# Altium footprint library 6-Pcblib_BjtMos.PcbLib: 31 footprints (part 1 of 2)
Each footprint in its own frame and in the unit in brackets; x right, y up, seen from the top. Pads: shape width x height; smd on the part's side, far side on the other; paste and mask are expansions set on the pad; w line width, h text height; cw(c..) or ccw(c..) is an arc to the next point about the centre after c.
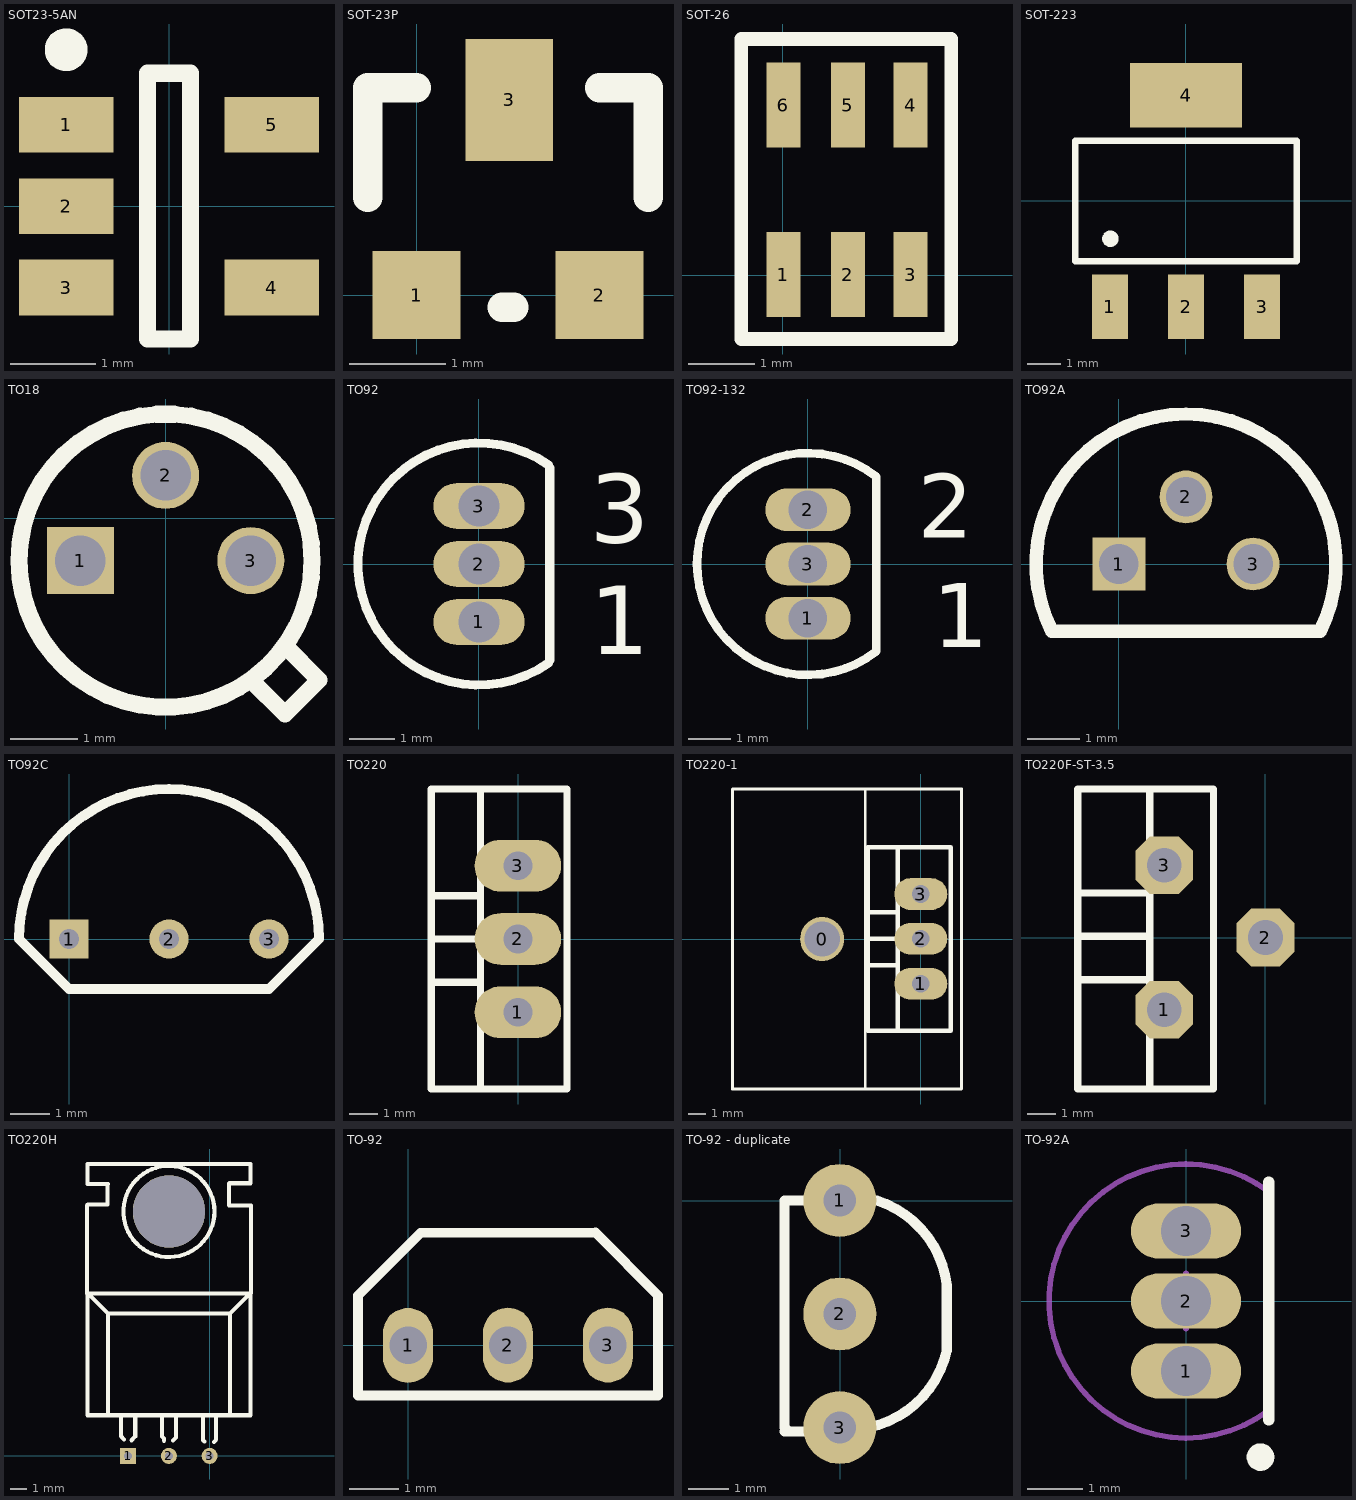
[diagram p0: the footprints below, top view; thin cyan lines are the x and y axes]

## SOT23-5AN [mm]
pads (5):
  rect 1.1x0.65 smd: 1(-1.2,0.95) 2(-1.2,0) 3(-1.2,-0.95) 4(1.2,-0.95) 5(1.2,0.95)
Top Overlay:
  circle w0.25: c-1.2,1.825 r0.125
  lines w0.2: -0.25,-1.55 -0.25,1.55 0.25,1.55 0.25,-1.55 -0.25,-1.55

## SOT-23P [mil]
pads (3):
  rect 36x36 smd: 1(0,0) 2(75,0)
  rect 36x50 smd: 3(38,80)
Top Overlay:
  lines w12: -20,40 -20,85 0,85 ; 35,-5 40,-5 ; 75,85 95,85 95,40

## SOT-26 [mil]
pads (6):
  rect 20x50 smd: 1(0.41,0.41) 2(38.41,0.41) 3(75.41,0.41) 4(75.41,100.41) 5(38.41,100.41) 6(0.41,100.41)
Top Overlay:
  lines w8: -24.59,-37.59 99.41,-37.59 99.41,139.41 -24.59,139.41 -24.59,-37.59

## SOT-223 [mm]
pads (4):
  rect 1.1x1.95 smd: 1(-2.298,-3.201) 2(0.002,-3.201) 3(2.302,-3.201)
  rect 3.4x1.95 smd: 4(0.002,3.199)
Top Overlay:
  circle w0.25: c-2.284,-1.143 r0.125
  lines w0.2: -3.348,-1.826 3.352,-1.826 3.352,1.824 -3.348,1.824 -3.348,-1.826

## TO18 [mm]
pads (3):
  rect 1x1 hole 0.75: 1(-1.27,-0.635)
  round 1 hole 0.75: 2(0,0.635) 3(1.27,-0.635)
Top Overlay:
  circle w0.254: c0,-0.635 r2.185
  lines w0.254: 1.27,-2.413 1.778,-2.921 2.286,-2.413 1.778,-1.905

## TO92 [mm] "TO, Flat Index; 3 In-Line, Axial Leads; Body Dia. 4.8mm; Leads 0.51 x 0.51 mm (max)"
height 5.33
pads (3):
  oval 2x1 hole 0.9: 1(0,-1.27) 2(0,0) 3(0,1.27)
Top Overlay:
  lines w0.2: 1.52,-2.171 cw(c0,0) 1.52,2.171 ; 1.55,-2.1 1.55,2.1
  text "1" at 2.421,-1.979 h1.5
  text "3" at 2.421,0.467 h1.5

## TO92-132 [mm] "TO, Flat Index; 3 In-Line, Axial Leads; Body Dia. 4.8mm; Leads 0.51 x 0.51 mm (max)"
height 5.33
pads (3):
  oval 2x1 hole 0.9: 1(0,-1.27) 2(0,1.27) 3(0,0)
Top Overlay:
  lines w0.2: 1.601,-2.049 cw(c0,0) 1.601,2.049 ; 1.6,-1.99 1.6,1.99
  text "2" at 2.57,0.61 h1.5
  text "1" at 2.93,-1.95 h1.5

## TO92A [mm]
pads (3):
  rect 1x1 hole 0.75: 1(0,0)
  round 1 hole 0.75: 2(1.27,1.27) 3(2.54,0)
Top Overlay:
  lines w0.254: -1.27,-1.27 cw(c1.27,0) 3.81,-1.27 -1.27,-1.27

## TO92C [mm]
pads (3):
  rect 1x1 hole 0.5: 1(0,0)
  round 1 hole 0.5: 2(2.54,0) 3(5.08,0)
Top Overlay:
  lines w0.254: -1.27,0 cw(c2.54,0) 6.35,0 5.08,-1.27 0,-1.27 -1.27,0

## TO220 [mm]
pads (3):
  oval 3x1.8 hole 1: 1(-0.003,-2.532) 2(-0.003,0.008) 3(-0.003,2.548)
Top Overlay:
  lines w0.254: -3.003,-1.492 -1.353,-1.492 ; -3.003,0.008 -0.503,0.008 ; -3.003,1.508 -1.353,1.508 ; -1.303,-5.192 -1.303,5.208 ; -3.003,-5.192 -3.003,5.208 1.697,5.208 1.697,-5.192 -3.003,-5.192

## TO220-1 [mm]
pads (4):
  round 2.5 hole 2: 0(-5.6,0)
  oval 3x1.8 hole 1: 1(-0.003,-2.532) 2(-0.003,0.008) 3(-0.003,2.548)
Top Overlay:
  lines w0.152: -10.7,-8.5 2.3,-8.5 2.3,8.5 ; -10.682,-8.5 -10.682,8.5 2.318,8.5 ; -3.161,-8.5 -3.161,8.5
  lines w0.254: -3.003,-1.492 -1.353,-1.492 ; -3.003,0.008 -0.503,0.008 ; -3.003,1.508 -1.353,1.508 ; -1.303,-5.192 -1.303,5.208 ; -3.003,-5.192 1.697,-5.192 1.697,5.208 -3.003,5.208 -3.003,-5.192

## TO220F-ST-3.5 [mm]
pads (3):
  oct 2x2 hole 1.2: 1(-3.498,-2.488) 2(0.002,0.012) 3(-3.498,2.512)
Top Overlay:
  lines w0.254: -6.498,-1.448 -3.998,-1.448 ; -6.498,0.052 -3.998,0.052 ; -6.498,1.552 -3.998,1.552 ; -3.998,-5.228 -3.998,5.152 ; -6.498,-5.228 -1.798,-5.228 -1.798,5.152 -6.498,5.152 -6.498,-5.228

## TO220H [mm]
pads (4):
  rect 1x1 hole 0.5: 1(-5.08,0)
  round 1 hole 0.5: 2(-2.54,0) 3(0,0)
  round 4.5 hole 4.5: ""(-2.54,15.24)
Top Overlay:
  circle w0.254: c-2.54,15.24 r2.84
  lines w0.254: -5.53,2.54 -5.53,1.23 -5.34,1.04 ; -4.87,0.98 -4.64,1.21 -4.64,2.54 ; -2.97,2.54 -2.97,1.21 -2.85,1.09 -2.85,0.95 ; -2.28,0.97 -2.11,1.14 -2.11,1.27 -2.11,2.54 ; -0.42,2.54 -0.42,0.98 -0.33,0.89 ; 0.26,0.88 0.39,1.01 0.39,2.54 ; 2.54,10.16 1.27,8.89 ; 2.54,17.08 2.55,17 ; -6.35,2.54 -6.35,8.89 ; -6.35,2.54 -7.62,2.54 -7.62,10.16 -6.35,8.89 ; -6.35,2.54 1.27,2.54 ; -6.35,8.89 1.27,8.89 ; 1.27,2.54 1.27,8.89 ; 1.27,2.54 2.54,2.54 2.54,10.14 2.57,10.17 ; 2.51,18.2 2.54,18.2 ; 2.51,18.2 2.54,18.2 ; 2.51,18.2 2.54,18.2 ; 2.54,18.2 -2.54,18.2 -7.62,18.2 -7.62,16.96 -6.34,16.96 -6.36,16.94 -6.36,15.68 -7.6,15.68 -7.65,15.63 -7.65,10.15 -7.63,10.13 2.53,10.13 2.57,10.17 ; 2.54,18.2 2.55,17 ; 2.55,17 1.23,17 1.21,16.98 1.21,15.63 1.24,15.6 2.58,15.6 2.57,10.17

## TO-92 [mil]
height 23.62
pads (3):
  oval 40x60 hole 30: 1(0,0) 2(79.97,0.26) 3(159.97,0.26)
Top Overlay:
  lines w8: -40,-40 200,-40 200,40 149.97,90.26 10,90 -40,40 -40,-40
3D body: height 240.16, standoff -177.17, extent -10.35,-49.36 170.28,90.65

## TO-92 - duplicate [mm]
pads (3):
  round 1.8 hole 0.8: 1(-0.009,0.004) 2(-0.009,-2.796) 3(-0.009,-5.596)
Top Overlay:
  lines w0.25: -1.369,-5.696 0.231,-5.696 ; -1.269,-5.696 -1.369,-5.596 -1.369,0.004 0.531,0.004 ; -0.354,-5.589 ccw(c0.192,-3.149) 2.631,-3.696 ; -0.136,0.104 cw(c0.147,-2.379) 2.631,-2.096
  lines w0.254: 2.631,-3.696 2.631,-2.096

## TO-92A [mm] "TO, Flat Index; 3 In-Line, Axial Leads; Body Dia. 4.5mm; Leads 0.51 x 0.48 mm (max)"
height 6.86
pads (3):
  oval 2x1 hole 0.9: 1(0,-1.27) 2(0,0) 3(0,1.27)
Top Overlay:
  circle w0.25: c1.35,-2.83 r0.125
  lines w0.2: 1.5,-2.159 1.5,2.159
Mechanical 13:
  lines w0.1: 1.5,-1.98 cw(c0,0) 1.5,1.98 1.5,-1.98
Mechanical 15:
  lines w0.1: -0.5,0 0.5,0 ; 0,-0.5 0,0.5
3D body: height 8.09, standoff -6.11, extent -2.318,-2.448 1.681,2.347